# Altium footprint library Female_Header.PCBLIB: 4 footprints
Each footprint in its own frame and in the unit in brackets; x right, y up, seen from the top. Pads: shape width x height; smd on the part's side, far side on the other; paste and mask are expansions set on the pad; w line width, h text height; cw(c..) or ccw(c..) is an arc to the next point about the centre after c.
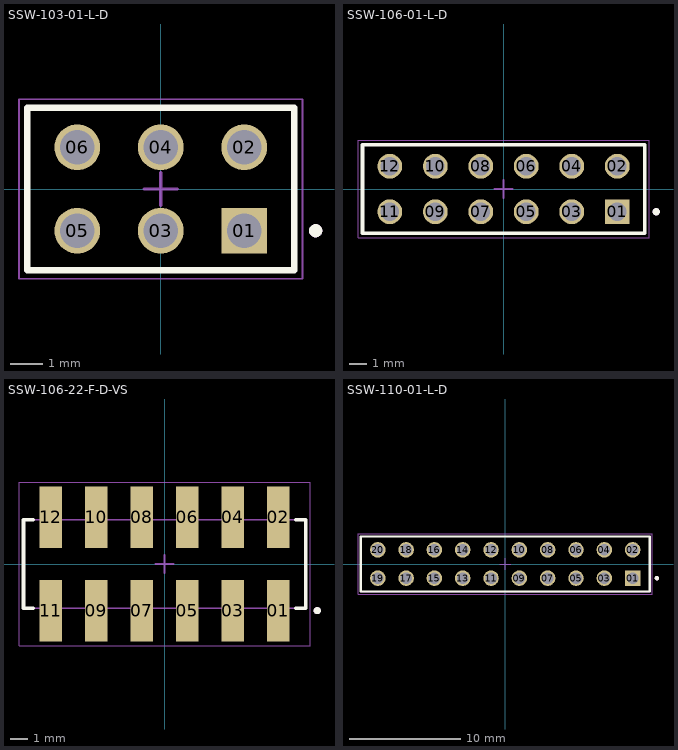
[diagram p0: the footprints below, top view; thin cyan lines are the x and y axes]

## SSW-103-01-L-D [mm]
pads (6):
  rect 1.39x1.39 / inner round 1.39 / far side rect 1.39x1.39 hole 1.04 mask+0.102: 01(2.54,-1.27)
  round 1.39 hole 1.04 mask+0.102: 02(2.54,1.27) 03(0,-1.27) 04(0,1.27) 05(-2.54,-1.27) 06(-2.54,1.27)
Top Overlay:
  circle w0.2: c4.715,-1.27 r0.1
  lines w0.2: -4.065,-2.476 4.065,-2.476 4.065,2.476 -4.065,2.476 -4.065,-2.476
Top Assembly:
  circle w0.2: c4.715,-1.27 r0.1
  lines w0.1: -4.065,-2.476 -4.065,2.476 ; -4.065,-2.476 4.065,-2.476 ; -4.065,-2.476 -4.065,2.476 ; -4.065,2.476 4.065,2.476 ; -4.065,2.476 4.065,2.476 ; 4.065,-2.476 4.065,2.476 ; 4.065,-2.476 4.065,2.476
Top Courtyard:
  lines w0.05: -4.315,-2.726 4.315,-2.726 4.315,2.726 -4.315,2.726 -4.315,-2.726
Top Designator:
  text ".Designator" at -0.7,-0.233 h0.5
Top Component Center:
  lines w0.1: -0.5,0 0.5,0 ; 0,-0.5 0,0.5
3D body "SSW-103-01-L-D.stp": height 8.51, standoff -2.64, extent -4.038,-2.501 4.09,2.452

## SSW-106-01-L-D [mm]
pads (12):
  rect 1.39x1.39 hole 1.04: 01(6.35,-1.27)
  round 1.39 hole 1.04: 02(6.35,1.27) 03(3.81,-1.27) 04(3.81,1.27) 05(1.27,-1.27) 06(1.27,1.27) 07(-1.27,-1.27) 08(-1.27,1.27) 09(-3.81,-1.27) 10(-3.81,1.27) 11(-6.35,-1.27) 12(-6.35,1.27)
Top Overlay:
  circle w0.2: c8.525,-1.27 r0.1
  lines w0.2: -7.875,-2.476 7.875,-2.476 7.875,2.476 -7.875,2.476 -7.875,-2.476
Top Assembly:
  circle w0.2: c8.525,-1.27 r0.1
  lines w0.1: -7.875,-2.476 -7.875,2.476 ; -7.875,-2.476 7.875,-2.476 ; -7.875,-2.476 -7.875,2.476 ; -7.875,2.476 7.875,2.476 ; -7.875,2.476 7.875,2.476 ; 7.875,-2.476 7.875,2.476 ; 7.875,-2.476 7.875,2.476
Top Courtyard:
  lines w0.05: -8.125,-2.726 8.125,-2.726 8.125,2.726 -8.125,2.726 -8.125,-2.726
Top Designator:
  text ".Designator" at -0.7,-0.233 h0.5
Top Component Center:
  lines w0.1: -0.5,0 0.5,0 ; 0,-0.5 0,0.5
3D body "SSW-106-01-L-D.stp": height 8.51, standoff -2.64, extent -7.869,-2.452 7.879,2.501

## SSW-106-22-F-D-VS [mm]
pads (12):
  rect 1.27x3.43 smd: 01(6.35,-2.605) 02(6.35,2.605) 03(3.81,-2.605) 04(3.81,2.605) 05(1.27,-2.605) 06(1.27,2.605) 07(-1.27,-2.605) 08(-1.27,2.605) 09(-3.81,-2.605) 10(-3.81,2.605) 11(-6.35,-2.605) 12(-6.35,2.605)
Top Overlay:
  circle w0.2: c8.525,-2.605 r0.1
  lines w0.2: -7.335,-2.475 -7.875,-2.475 -7.875,2.475 -7.335,2.475 ; 7.335,-2.475 7.875,-2.475 7.875,2.475 7.335,2.475
Top Assembly:
  circle w0.2: c8.525,-2.605 r0.1
  lines w0.1: -7.875,-2.475 -7.875,2.475 ; -7.875,-2.475 7.875,-2.475 ; -7.875,-2.475 -7.875,2.475 ; -7.875,2.475 7.875,2.475 ; -7.875,2.475 7.875,2.475 ; 7.875,-2.475 7.875,2.475 ; 7.875,-2.475 7.875,2.475
Top Courtyard:
  lines w0.05: -8.125,-4.57 8.125,-4.57 8.125,4.57 -8.125,4.57 -8.125,-4.57
Top Designator:
  text ".Designator" at -0.3,-0.133 h0.5
Top Component Center:
  lines w0.1: -0.5,0 0.5,0 ; 0,-0.5 0,0.5
3D body "SSW-106-22-F-D-VS.stp": height 9.78, standoff 0, extent -6.974,-4.737 8.774,3.137

## SSW-110-01-L-D [mm]
pads (20):
  rect 1.39x1.39 hole 1.04: 01(11.43,-1.27)
  round 1.39 hole 1.04: 02(11.43,1.27) 03(8.89,-1.27) 04(8.89,1.27) 05(6.35,-1.27) 06(6.35,1.27) 07(3.81,-1.27) 08(3.81,1.27) 09(1.27,-1.27) 10(1.27,1.27) 11(-1.27,-1.27) 12(-1.27,1.27) 13(-3.81,-1.27) 14(-3.81,1.27) 15(-6.35,-1.27) 16(-6.35,1.27) 17(-8.89,-1.27) 18(-8.89,1.27) 19(-11.43,-1.27) 20(-11.43,1.27)
Top Overlay:
  circle w0.2: c13.605,-1.27 r0.1
  lines w0.2: -12.955,-2.476 12.955,-2.476 12.955,2.476 -12.955,2.476 -12.955,-2.476
Top Assembly:
  circle w0.2: c13.605,-1.27 r0.1
  lines w0.1: -12.955,-2.476 -12.955,2.476 ; -12.955,-2.476 12.955,-2.476 ; -12.955,-2.476 -12.955,2.476 ; -12.955,2.476 12.955,2.476 ; -12.955,2.476 12.955,2.476 ; 12.955,-2.476 12.955,2.476 ; 12.955,-2.476 12.955,2.476
Top Courtyard:
  lines w0.05: -13.205,-2.726 13.205,-2.726 13.205,2.726 -13.205,2.726 -13.205,-2.726
Top Designator:
  text ".Designator" at -0.7,-0.233 h0.5
Top Component Center:
  lines w0.1: -0.5,0 0.5,0 ; 0,-0.5 0,0.5
3D body "SSW-110-01-L-D.stp": height 8.51, standoff -2.64, extent -12.919,-2.473 12.989,2.48